# Altium footprint library SOT553.PcbLib: 1 footprints
Each footprint in its own frame and in the unit in brackets; x right, y up, seen from the top. Pads: shape width x height; smd on the part's side, far side on the other; paste and mask are expansions set on the pad; w line width, h text height; cw(c..) or ccw(c..) is an arc to the next point about the centre after c.
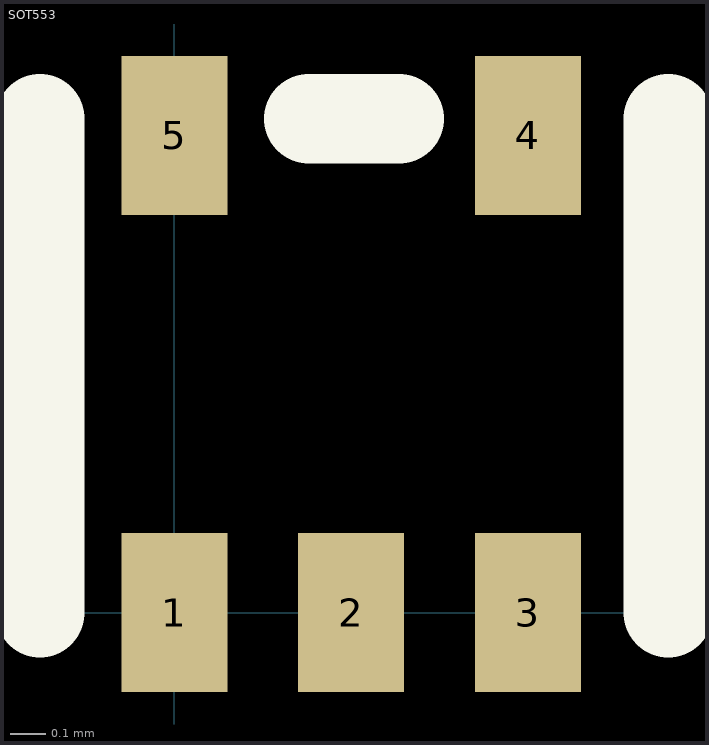
[diagram p0: the footprint, top view; thin cyan lines are the x and y axes]

## SOT553 [mm]
pads (5):
  rect 0.3x0.45 smd paste-0.03 mask+0: 1(0,0) 2(0.5,0) 3(1,0) 4(1,1.35) 5(0,1.35)
Top Overlay:
  lines w0.254: -0.381,0 -0.381,1.397 ; 0.381,1.397 0.635,1.397 ; 1.397,0 1.397,1.397